# Altium footprint library strainGuageLib.PcbLib: 3 footprints
Each footprint in its own frame and in the unit in brackets; x right, y up, seen from the top. Pads: shape width x height; smd on the part's side, far side on the other; paste and mask are expansions set on the pad; w line width, h text height; cw(c..) or ccw(c..) is an arc to the next point about the centre after c.
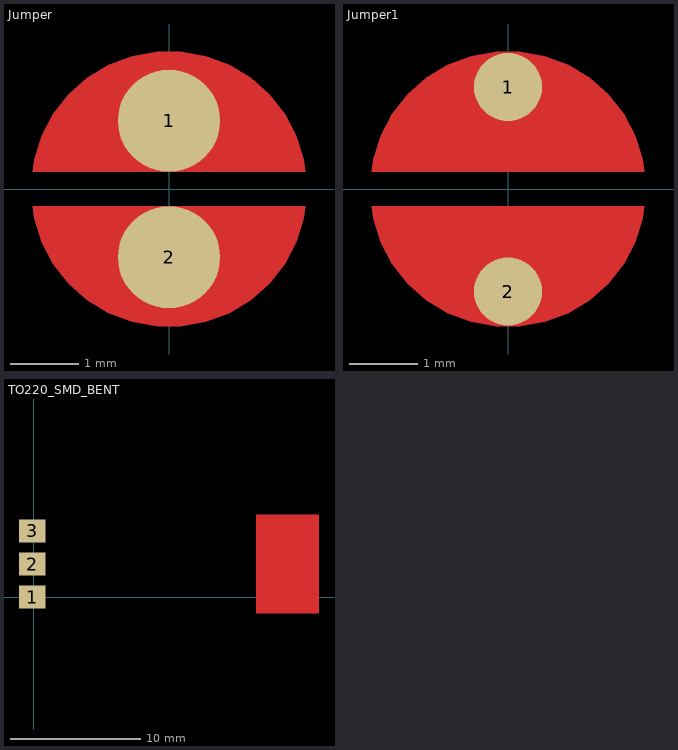
[diagram p0: the footprints below, top view; thin cyan lines are the x and y axes]

## Jumper [mm]
pads (2):
  round 1.5 smd paste+0 mask+0: 1(0,1.004) 2(0,-0.996)
Top Layer:
  region: 2,0.254 1.977,0.435 1.868,0.784 1.697,1.107 1.471,1.394 1.197,1.636 0.884,1.825 0.542,1.954 0.183,2.02 -0.183,2.02 -0.542,1.954 -0.884,1.825 -1.197,1.636 -1.471,1.394 -1.697,1.107 -1.868,0.784 -1.977,0.435 -2,0.254
  region: -2,-0.246 -1.977,-0.427 -1.868,-0.776 -1.697,-1.099 -1.471,-1.386 -1.197,-1.628 -0.884,-1.817 -0.542,-1.946 -0.183,-2.012 0.183,-2.012 0.542,-1.946 0.884,-1.817 1.197,-1.628 1.471,-1.386 1.697,-1.099 1.868,-0.776 1.977,-0.427 2,-0.246
Bottom Overlay:
  circle w0.254: c0,0.004 r2.2
Bottom Solder:
  circle w0.254: c0,0.004 r2.121
  region: 0,-2.117 0.209,-2.117 0.619,-2.036 1.005,-1.876 1.352,-1.644 1.648,-1.348 1.88,-1.001 2.04,-0.615 2.121,-0.205 2.121,0.004 2.121,0.213 2.04,0.623 1.88,1.009 1.648,1.356 1.352,1.652 1.005,1.884 0.619,2.044 0.209,2.125 0,2.125 -0.209,2.125 -0.619,2.044 -1.005,1.884 -1.352,1.652 -1.648,1.356 -1.88,1.009 -2.04,0.623 -2.121,0.213 -2.121,0.004 -2.121,-0.205 -2.04,-0.615 -1.88,-1.001 -1.648,-1.348 -1.352,-1.644 -1.005,-1.876 -0.619,-2.036 -0.209,-2.117

## Jumper1 [mm]
pads (2):
  round 1 smd paste+0 mask+0: 1(0,1.5) 2(0,-1.5)
Top Layer:
  region: -2,-0.246 -1.977,-0.427 -1.868,-0.776 -1.697,-1.099 -1.471,-1.386 -1.197,-1.628 -0.884,-1.817 -0.542,-1.946 -0.183,-2.012 0.183,-2.012 0.542,-1.946 0.884,-1.817 1.197,-1.628 1.471,-1.386 1.697,-1.099 1.868,-0.776 1.977,-0.427 2,-0.246
  region: 2,0.254 1.977,0.435 1.868,0.784 1.697,1.107 1.471,1.394 1.197,1.636 0.884,1.825 0.542,1.954 0.183,2.02 -0.183,2.02 -0.542,1.954 -0.884,1.825 -1.197,1.636 -1.471,1.394 -1.697,1.107 -1.868,0.784 -1.977,0.435 -2,0.254
Bottom Overlay:
  circle w0.254: c0,0.004 r2.2
Bottom Solder:
  circle w0.254: c0,0.004 r2.121
  region: 0,-2.117 0.209,-2.117 0.619,-2.036 1.005,-1.876 1.352,-1.644 1.648,-1.348 1.88,-1.001 2.04,-0.615 2.121,-0.205 2.121,0.004 2.121,0.213 2.04,0.623 1.88,1.009 1.648,1.356 1.352,1.652 1.005,1.884 0.619,2.044 0.209,2.125 0,2.125 -0.209,2.125 -0.619,2.044 -1.005,1.884 -1.352,1.652 -1.648,1.356 -1.88,1.009 -2.04,0.623 -2.121,0.213 -2.121,0.004 -2.121,-0.205 -2.04,-0.615 -1.88,-1.001 -1.648,-1.348 -1.352,-1.644 -1.005,-1.876 -0.619,-2.036 -0.209,-2.117

## TO220_SMD_BENT [mil]
pads (3):
  rect 80x70 smd: 1(-5,0) 2(-5,100) 3(-5,200)
Top Layer:
  rectangle: 670.43,-50 861.14,250
Bottom Overlay:
  circle w10: c670.43,100 r75
  lines w10: 258.78,-50 780.43,-50 ; 258.78,-49.61 258.78,250 780.43,250 780.43,-50 ; 445.43,106.3 445.43,-50 445.43,250 ; 534.37,-50 557.99,-50 ; 780.43,106.3 780.43,-50
3D body: height 177.17, standoff 19.68, extent 258.78,-49.61 557.99,249.61
3D body: height 55.12, standoff 19.68, extent 557.99,-49.61 778.46,249.61